# Altium footprint library molexMiniFitJr_component.PcbLib: 1 footprints
Each footprint in its own frame and in the unit in brackets; x right, y up, seen from the top. Pads: shape width x height; smd on the part's side, far side on the other; paste and mask are expansions set on the pad; w line width, h text height; cw(c..) or ccw(c..) is an arc to the next point about the centre after c.
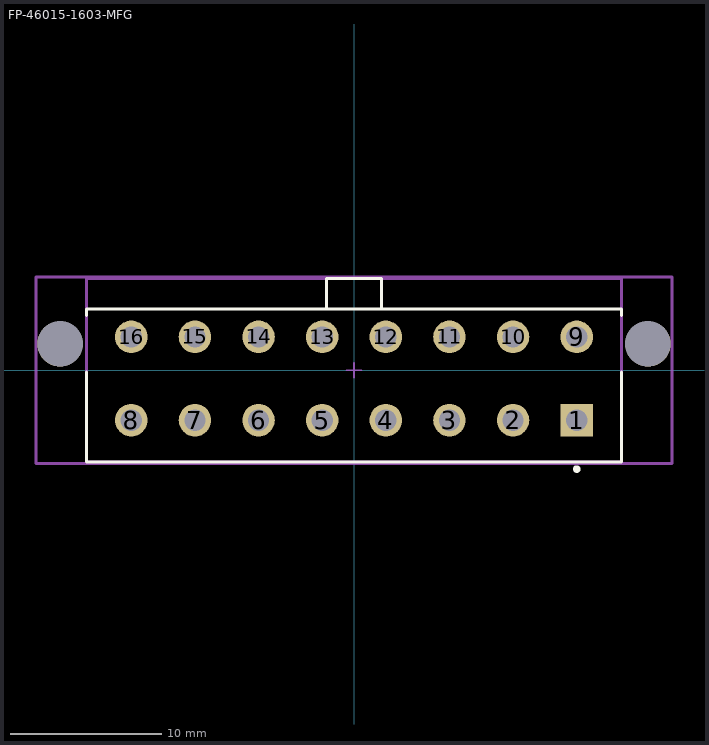
[diagram p0: the footprint, top view; thin cyan lines are the x and y axes]

## FP-46015-1603-MFG [mm]
pads (18):
  rect 2.15x2.15 hole 1.4 paste-2539.97 mask+0: 1(14.7,-3.3)
  round 2.15 hole 1.4 paste-2539.97 mask+0: 2(10.5,-3.3) 3(6.3,-3.3) 4(2.1,-3.3) 5(-2.1,-3.3) 6(-6.3,-3.3) 7(-10.5,-3.3) 8(-14.7,-3.3) 9(14.7,2.2) 10(10.5,2.2) 11(6.3,2.2) 12(2.1,2.2) 13(-2.1,2.2) 14(-6.3,2.2) 15(-10.5,2.2) 16(-14.7,2.2)
  round 3 hole 3 unplated paste-2539.97 mask+0: ""(-19.4,1.74) ""(19.4,1.74)
Top Overlay:
  circle w0.25: c14.7,-6.525 r0.125
  lines w0.2: -17.65,-0.135 -17.65,-6.05 17.65,-6.05 17.65,-0.135 ; -17.65,3.615 -17.65,4.05 17.65,4.05 17.65,3.615 ; -1.825,4.05 -1.825,6.05 1.825,6.05 1.825,4.05
Top Assembly:
  lines w0.2: -21,-6.15 21,-6.15 21,6.15 -21,6.15 -21,-6.15
  text ".Designator" at 0,0.188 h1
Top 3D Body:
  lines w0.2: -17.65,-6.05 17.65,-6.05 17.65,6.05 -17.65,6.05 -17.65,-6.05
Top Courtyard:
  lines w0.2: -21,-6.15 21,-6.15 21,6.15 -21,6.15 -21,-6.15
Top Component Center:
  lines w0.1: -0.5,0 0.5,0 ; 0,-0.5 0,0.5
3D body "Conn_Molex_46015-1603_eec.STEP": height 0.25, standoff 0, extent -21,-6.15 21,6.15